# Altium footprint library AdamsParts.PcbLib: 238 footprints (part 7 of 15)
Each footprint in its own frame and in the unit in brackets; x right, y up, seen from the top. Pads: shape width x height; smd on the part's side, far side on the other; paste and mask are expansions set on the pad; w line width, h text height; cw(c..) or ccw(c..) is an arc to the next point about the centre after c.
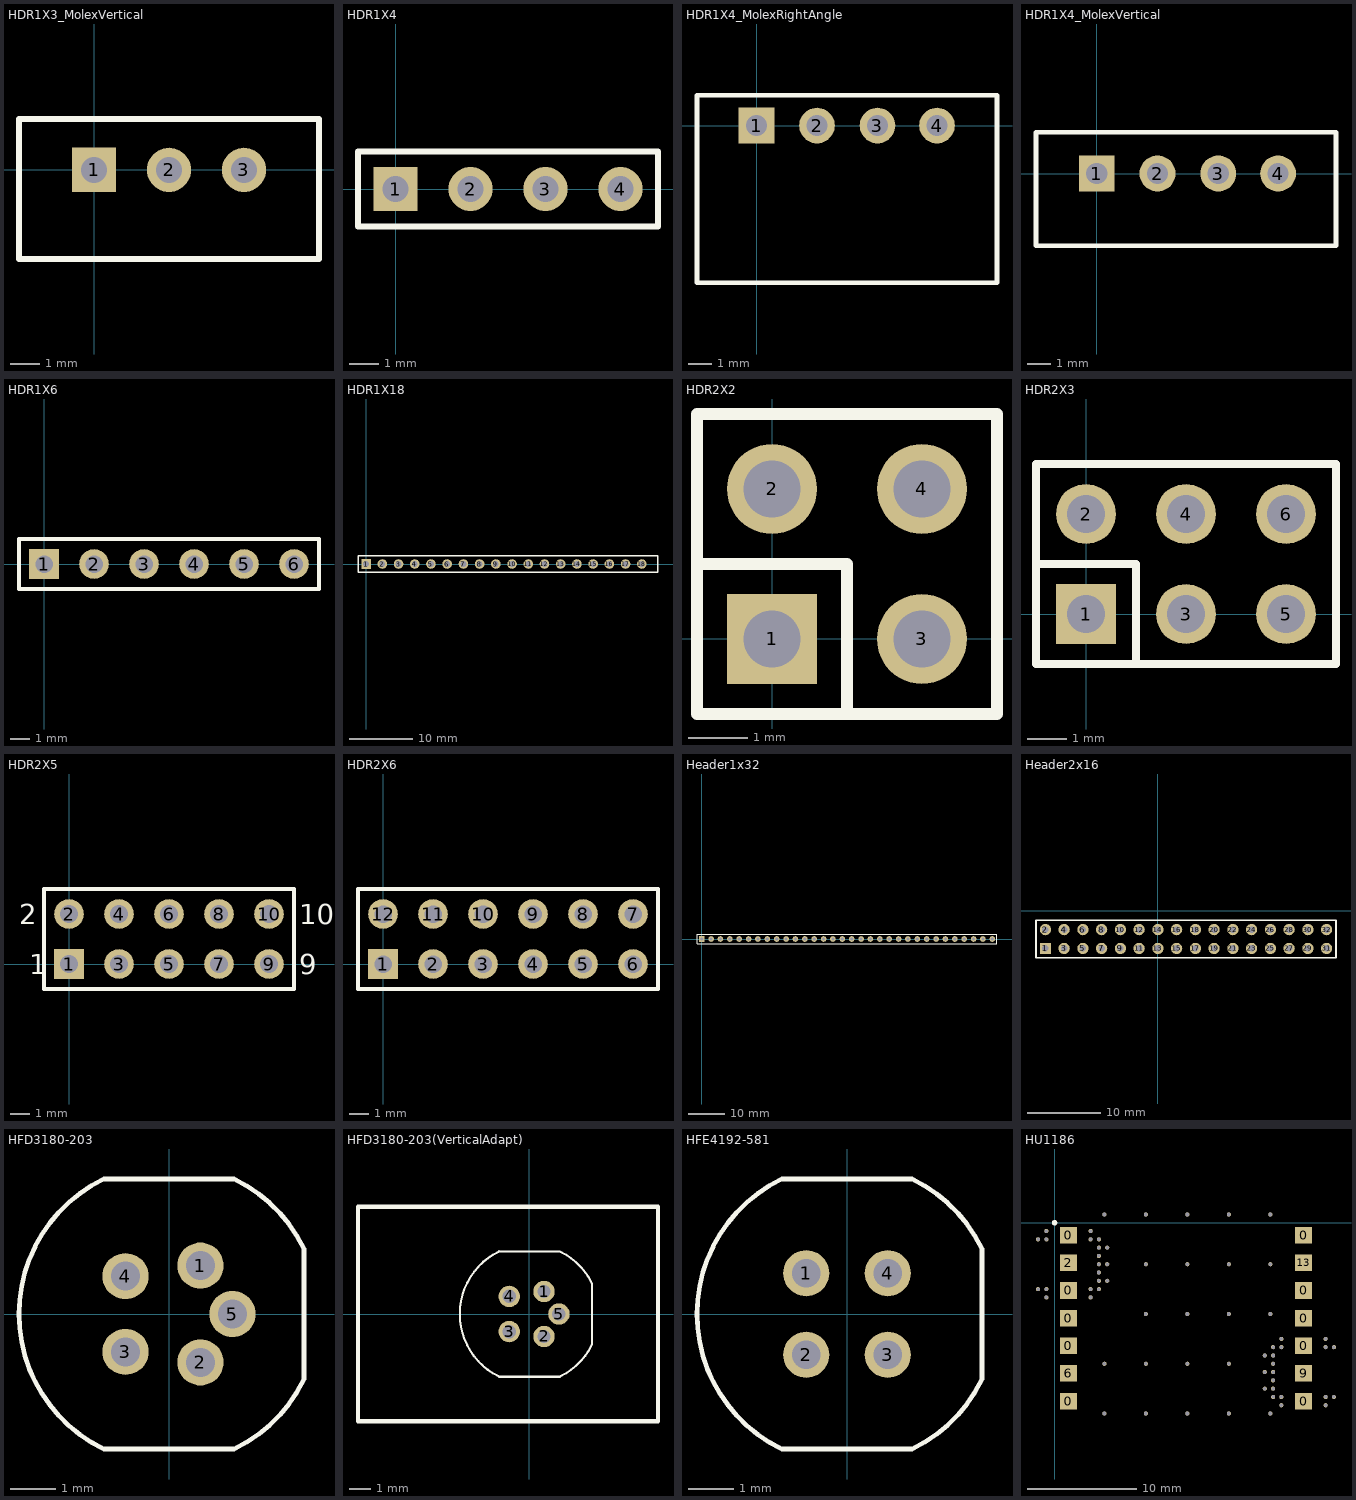
[diagram p6: the footprints below, top view; thin cyan lines are the x and y axes]

## HDR1X3_MolexVertical [mm]
pads (3):
  rect 1.5x1.5 hole 0.889: 1(0,0)
  round 1.5 hole 0.889: 2(2.54,0) 3(5.08,0)
Top Overlay:
  lines w0.2: -2.54,-3.023 -2.54,1.727 7.62,1.727 7.62,-3.023 -2.54,-3.023

## HDR1X4 [mm]
pads (4):
  rect 1.5x1.5 hole 0.889: 1(0,0)
  round 1.5 hole 0.889: 2(2.54,0) 3(5.08,0) 4(7.62,0)
Top Overlay:
  lines w0.2: -1.27,-1.27 8.89,-1.27 8.89,1.27 -1.27,1.27 -1.27,-1.27

## HDR1X4_MolexRightAngle [mm]
height 4.9
pads (4):
  rect 1.5x1.5 hole 0.889: 1(0,0)
  round 1.5 hole 0.889: 2(2.54,0) 3(5.08,0) 4(7.58,0)
Top Overlay:
  lines w0.2: -2.5,-6.6 -2.5,1.27 10.1,1.27 10.1,-6.6 -2.5,-6.6

## HDR1X4_MolexVertical [mm]
pads (4):
  rect 1.5x1.5 hole 0.889: 1(0,0)
  round 1.5 hole 0.889: 2(2.54,0) 3(5.08,0) 4(7.58,0)
Top Overlay:
  lines w0.2: -2.54,-3.023 10,-3.023 10,1.727 -2.54,1.727 -2.54,-3.023

## HDR1X6 [mm]
pads (6):
  rect 1.5x1.5 hole 0.889: 1(0,0)
  round 1.5 hole 0.889: 2(2.54,0) 3(5.08,0) 4(7.62,0) 5(10.16,0) 6(12.7,0)
Top Overlay:
  lines w0.2: -1.27,-1.27 -1.27,1.27 13.97,1.27 13.97,-1.27 -1.27,-1.27

## HDR1X18 [mm]
pads (18):
  rect 1.5x1.5 hole 0.9: 1(0,0)
  round 1.5 hole 0.9: 2(2.54,0) 3(5.08,0) 4(7.62,0) 5(10.16,0) 6(12.7,0) 7(15.24,0) 8(17.78,0) 9(20.32,0) 10(22.86,0) 11(25.4,0) 12(27.94,0) 13(30.48,0) 14(33.02,0) 15(35.56,0) 16(38.1,0) 17(40.64,0) 18(43.18,0)
Top Overlay:
  lines w0.2: -1.27,-1.27 13.97,-1.27 29.21,-1.27 45.72,-1.27 45.72,1.27 29.21,1.27 13.97,1.27 -1.27,1.27 -1.27,-1.27

## HDR2X2 [mil]
pads (4):
  rect 60x60 hole 38: 1(0,0)
  round 60 hole 38: 2(0,100) 3(100,0) 4(100,100)
Top Overlay:
  lines w7.87: -50,50 50,50 50,-50 ; -50,-50 150,-50 150,150 -50,150 -50,-50

## HDR2X3 [mil]
pads (6):
  rect 60x60 hole 38: 1(0,0)
  round 60 hole 38: 2(0,100) 3(100,0) 4(100,100) 5(200,0) 6(200,100)
Top Overlay:
  lines w7.87: -50,50 50,50 50,-50 ; -50,-50 -50,150 250,150 250,-50 -50,-50

## HDR2X5 [mm]
pads (10):
  rect 1.5x1.5 hole 0.9: 1(0,0)
  round 1.5 hole 0.9: 2(0,2.54) 3(2.54,0) 4(2.54,2.54) 5(5.08,0) 6(5.08,2.54) 7(7.62,0) 8(7.62,2.54) 9(10.16,0) 10(10.16,2.54)
Top Overlay:
  lines w0.2: -1.27,-1.27 11.43,-1.27 11.43,3.81 -1.27,3.81 -1.27,-1.27
  text "10" at 11.684,2.032 h1.02
  text "9" at 11.684,-0.508 h1.02
  text "1" at -2.032,-0.508 h1.02
  text "2" at -2.54,2.032 h1.02

## HDR2X6 [mm]
pads (12):
  rect 1.5x1.5 hole 0.889: 1(0,0)
  round 1.5 hole 0.889: 2(2.54,0) 3(5.08,0) 4(7.62,0) 5(10.16,0) 6(12.7,0) 7(12.7,2.54) 8(10.16,2.54) 9(7.62,2.54) 10(5.08,2.54) 11(2.54,2.54) 12(0,2.54)
Top Overlay:
  lines w0.2: -1.27,-1.27 13.97,-1.27 13.97,3.81 -1.27,3.81 -1.27,-1.27

## Header1x32 [mil]
pads (32):
  rect 60x60 hole 35: 1(0,0)
  round 60 hole 35: 2(100,0) 3(200,0) 4(300,0) 5(400,0) 6(500,0) 7(600,0) 8(700,0) 9(800,0) 10(900,0) 11(1000,0) 12(1100,0) 13(1200,0) 14(1300,0) 15(1400,0) 16(1500,0) 17(1600,0) 18(1700,0) 19(1800,0) 20(1900,0) 21(2000,0) 22(2100,0) 23(2200,0) 24(2300,0) 25(2400,0) 26(2500,0) 27(2600,0) 28(2700,0) 29(2800,0) 30(2900,0) 31(3000,0) 32(3100,0)
Top Overlay:
  lines w10: -50,-50 3150,-50 3150,50 -50,50 -50,-50

## Header2x16 [mil]
pads (32):
  rect 60x60 hole 35: 1(-600,-200)
  round 60 hole 35: 2(-600,-100) 3(-500,-200) 4(-500,-100) 5(-400,-200) 6(-400,-100) 7(-300,-200) 8(-300,-100) 9(-200,-200) 10(-200,-100) 11(-100,-200) 12(-100,-100) 13(0,-200) 14(0,-100) 15(100,-200) 16(100,-100) 17(200,-200) 18(200,-100) 19(300,-200) 20(300,-100) 21(400,-200) 22(400,-100) 23(500,-200) 24(500,-100) 25(600,-200) 26(600,-100) 27(700,-200) 28(700,-100) 29(800,-200) 30(800,-100) 31(900,-200) 32(900,-100)
Top Overlay:
  lines w10: -650,-250 -650,-50 950,-50 950,-250 -650,-250

## HFD3180-203 [mil]
height 440
pads (5):
  round 40 hole 25: 1(27.23,41.93) 2(27.23,-41.93) 3(-37.74,-32.8) 4(-37.74,32.8) 5(55,0)
Top Overlay:
  lines w4: -56.6,-117 0,-117 56.6,-117 ccw(c0,0) 117,-56.6 117,0 117,56.5 ccw(c0,0) 56.58,116.96 ; -56.58,-116.96 cw(c0,0) -56.5,117 0,117 56.6,117

## HFD3180-203(VerticalAdapt) [mil] "VCSEL receiver with vertical LC-TO adapter"
height 810
pads (5):
  round 40 hole 25: 1(27.23,41.93) 2(27.23,-41.93) 3(-37.74,-32.8) 4(-37.74,32.8) 5(55,0)
Top Overlay:
  lines w4: -56.6,-117 0,-117 56.6,-117 ccw(c0,0) 117,-56.6 117,0 117,56.5 ccw(c0,0) 56.58,116.96 ; -56.58,-116.96 cw(c0,0) -56.5,117 0,117 56.6,117
  lines w7.87: -320,-200 240,-200 240,200 -320,200 -320,-200

## HFE4192-581 [mil]
pads (4):
  round 40 hole 25: 1(-35.36,35.36) 2(-35.36,-35.36) 3(35.36,-35.36) 4(35.36,35.36)
Top Overlay:
  lines w4: -56.6,-117 0,-117 56.6,-117 ccw(c0,0) 117,-56.6 117,0 117,56.5 ccw(c0,0) 56.58,116.96 ; -56.58,-116.96 cw(c0,0) -56.5,117 0,117 56.6,117

## HU1186 [mil]
pads (77):
  round 15 hole 13: 0(-60,-240) 0(-60,-60) 0(-30,-270) 0(-30,-240) 0(-30,-60) 0(-30,-30) 0(130,-270) 0(130,-240) 0(130,-60) 0(130,-30) 0(160,-240) 0(160,-210) 0(160,-180) 0(160,-150) 0(160,-120) 0(160,-90) 0(160,-60) 0(180,-690) 0(180,-510) 0(180,30) 0(190,-210) 0(190,-150) 0(190,-90) 0(330,-690) 0(330,-510) 0(330,-330) 0(330,-150) 0(330,30) 0(480,-690) 0(480,-510) 0(480,-330) 0(480,-150) 0(480,30) 0(630,-690) 0(630,-510) 0(630,-330) 0(630,-150) 0(630,30) 0(760,-600) 0(760,-540) 0(760,-480) 0(780,-690) 0(780,-330) 0(780,-150) 0(780,30) 0(790,-630) 0(790,-600) 0(790,-570) 0(790,-540) 0(790,-510) 0(790,-480) 0(790,-450) 0(820,-660) 0(820,-630) 0(820,-450) 0(820,-420) 0(980,-660) 0(980,-630) 0(980,-450) 0(980,-420) 0(1010,-630) 0(1010,-450)
  rect 60x60 smd: 0(50,-645) 0(50,-445) 0(50,-345) 0(50,-245) 0(50,-45) 0(900,-645) 0(900,-445) 0(900,-345) 0(900,-245) 0(900,-45) 2(50,-145) 6(50,-545) 9(900,-545) 13(900,-145)
  round 20 on Top Overlay: 1(0,0)